# EAGLE library part USB_A (library USB_Isolator)
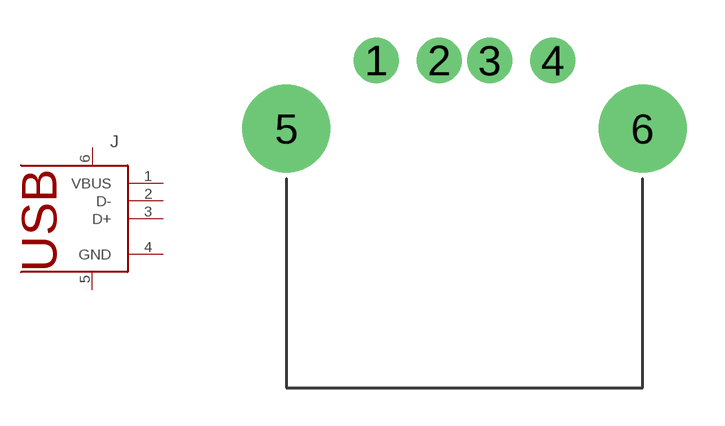
[diagram p2: symbol with the pads of USB_A_F; footprint USB_A_F]

Designator prefix J

## USB_A  [USB_A_F]
1  VBUS  pwr
2  D-
3  D+
4  GND  pwr
5  SHIELD1
6  SHIELD2

## Footprint USB_A_F (pad centres in mm)
drill 0.91 pad 1.8: 1 -3.5,2.71; 2 -1,2.71; 3 1,2.71; 4 3.5,2.71
drill 2.31 pad 3.5: 5 -7.07,0; 6 7.07,0